# Altium schematic symbol library MOSFET.SchLib: 13 symbols
Pins are listed as number, name and electrical type; pins without a type are passive.

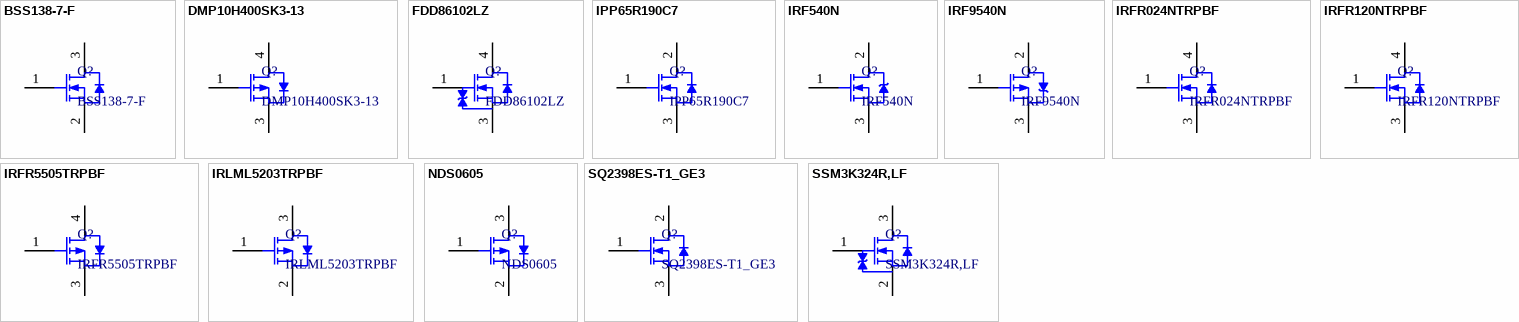
[diagram p0: symbols BSS138-7-F to SSM3K324R,LF]

## BSS138-7-F
designator Q?
MOSFETs 300mW 50V DSS; Manufacturer: Diodes Incorporated; Continuous Drain Current: 200 mA; Drain-to-Source On-Resistance: 3.5 Ohms; FET Type: N-Channel; Gate-to-Source Voltage (VGS): ±20V; Gate Threshold Voltage (Vth): 1.2 V; Drain to Source Voltage (Vdss): 50 V; Power Dissipation: 300 mW; Total Gate Charge: N/A; ComponentLink1Description: Datasheet; ComponentLink1URL: https://www.mouser.com/datasheet/2/115/ds30144-3214779.pdf; Supplier 1 URL: https://www.mouser.com/ProductDetail/Diodes-Incorporated/BSS138-7-F?qs=TJSU9qitBVRAP5gIAnNy0g%3D%3D; Supplier 2 URL: https://www.digikey.com/en/products/detail/diodes-incorporated/BSS138-7-F/717723; Supplier 3 URL: N/A; Value: BSS138-7-F; Manufacturer Part Number: BSS138-7-F; Mount: SMD/SMT; Operating Temperature Max: + 150 C; Operating Temperature Min: - 50 C; Package / Case: SOT-23-3; Packaging: Tape and Reel; Supplier 1: Mouser; Supplier 1 Part Number: 621-BSS138-7-F; Supplier 2: Digi-Key; Supplier 2 Part Number: BSS138-FDITR-ND; Supplier 3: thegioiic; Supplier 3 Part Number: N/A; LCSC Part #: C40912
footprint BSS138-7-F-SOT23 (SOT23, 3-Leads, Body 2.90x2.40mm, Pitch 0.90mm, IPC Medium Density)
pins: 1 G, 2 S, 3 D

## DMP10H400SK3-13
designator Q?
100V 9A 42W 240mΩ@10V,5A 3V@250uA P Channel TO-252-2 MOSFETs ROHS; Manufacturer: Diodes Incorporated; Drain to Source Voltage (Vdss): -100V; Gate Threshold Voltage (Vth): -1 V; Gate-to-Source Voltage (VGS): ±20V; Drain-to-Source On-Resistance: 240 mOhms; Continuous Drain Current: -9 A; Total Gate Charge: 17.5 nC; FET Type: P-Channel; Power Dissipation: 42 W; ComponentLink1Description: Datasheet; ComponentLink1URL: https://www.lcsc.com/datasheet/lcsc_datasheet_2005180933_Diodes-Incorporated-DMP10H400SK3-13_C177034.pdf; Supplier 1 URL: https://www.mouser.vn/ProductDetail/Diodes-Incorporated/DMP10H400SK3-13?qs=wo71MgyKIyFqONaMc85PEA%3D%3D; Supplier 2 URL: N/A; Supplier 3 URL: N/A; Value: DMP10H400SK3-13; Manufacturer Part Number: DMP10H400SK3-13; Mount: SMD/SMT; Operating Temperature Max: + 85 C; Operating Temperature Min: - 40 C; Package / Case: DPAK-3 (TO-252-3); Packaging: Tape and Reel; Supplier 1: Mouser; Supplier 1 Part Number: 621-DMP10H400SK3-13; Supplier 2: Digi-Key; Supplier 2 Part Number: N/A; Supplier 3: thegioiic; Supplier 3 Part Number: N/A; LCSC Part #: C177034
footprint TO-252-3 (D-PAK, 3-Pads, Body 6.20x6.54mm (max), IPC Medium Density)
pins: 1 G, 3 S, 4 D

## FDD86102LZ
designator Q?
MOSFETs 100V 22.5mΩ@10V,8A 3V@250uA 1 N-Channel TO-252(DPAK) MOSFETs ROHS; Manufacturer: onsemi; Continuous Drain Current: 42 A; Drain-to-Source On-Resistance: 31 mOhms; Gate-to-Source Voltage (VGS): ±20V; Gate Threshold Voltage (Vth): 1 V; Power Dissipation: 54 W; Total Gate Charge: 26 nC; Drain to Source Voltage (Vdss): 100 V; FET Type: N-Channel; ComponentLink1Description: Datasheet; ComponentLink1URL: https://www.mouser.com/datasheet/2/308/1/FDD86102LZ_D-2312405.pdf; Supplier 1 URL: https://www.mouser.com/ProductDetail/onsemi-Fairchild/FDD86102LZ?qs=dIxESgyDOriq9LDJtrMcmg%3D%3D; Supplier 2 URL: https://www.digikey.com/en/products/detail/onsemi/fdd86102lz/2602557; Supplier 3 URL: N/A; Value: FDD86102LZ; Manufacturer Part Number: FDD86102LZ; Mount: SMD/SMT; Operating Temperature Max: + 150 C; Operating Temperature Min: - 55 C; Package / Case: DPAK-3 (TO-252-3); Packaging: Tape and Reel; Supplier 1: Mouser; Supplier 1 Part Number: 512-FDD86102LZ; Supplier 2: Digi-Key; Supplier 2 Part Number: FDD86102LZFSTR-ND; Supplier 3: thegioiic; Supplier 3 Part Number: N/A; LCSC Part #: C111627
footprint TO-252-3 (D-PAK, 3-Pads, Body 6.20x6.54mm (max), IPC Medium Density)
pins: 1 G, 3 S, 4 D

## IPP65R190C7
designator Q?
MOSFET N-CH, 650V, 13A, 190mOhm, TO220AB; Manufacturer: Infineon Technologies; Drain-to-Source On-Resistance: 190 mOhms; FET Type: N-Channel; Gate-to-Source Voltage (VGS): ±20V; Gate Threshold Voltage (Vth): 3-4V; Power Dissipation: 72W; Total Gate Charge: 23nC; Continuous Drain Current: 13A; Drain to Source Voltage (Vdss): 650V; ComponentLink1Description: Datasheet; ComponentLink1URL: https://www.mouser.vn/datasheet/2/196/Infineon_IPP65R190C7_DS_v02_01_en-3165368.pdf; Supplier 1 URL: https://www.mouser.vn/ProductDetail/Infineon-Technologies/IPP65R190C7?qs=61g%252BPyeGH22xCcDq3bqxig%3D%3D; Supplier 2 URL: https://www.digikey.com/en/products/detail/rochester-electronics-llc/IPP65R190C7/13437818; Supplier 3 URL: N/A; Value: IPP65R190C7; Manufacturer Part Number: IPP65R190C7; Mount: SMD/SMT; Operating Temperature Max: + 85 C; Operating Temperature Min: - 40 C; Package / Case: TO-220AB; Packaging: Tape and Reel; Supplier 1: Mouser; Supplier 1 Part Number: 726-IPP65R190C7; Supplier 2: Digi-Key; Supplier 2 Part Number: 2156-IPP65R190C7-ND; Supplier 3: thegioiic; Supplier 3 Part Number: N/A; LCSC Part #: N/A
footprint IPP65R-TO-220AB
pins: 1 G, 2 D, 3 S

## IRF540N
designator Q?
MOSFET MOSFT 100V 33A 44mOhm 47.3nC; Manufacturer: Infineon Technologies; Gate Threshold Voltage (Vth): 2-4V; Gate-to-Source Voltage (VGS): ±20V; Drain-to-Source On-Resistance: 44mΩ; Total Gate Charge: 71nC; Power Dissipation: 130W; FET Type: N-Channel; Drain to Source Voltage (Vdss): 100V; Continuous Drain Current: 33A; ComponentLink1Description: Datasheet; ComponentLink1URL: https://www.mouser.vn/datasheet/2/196/Infineon_IRF540N_DataSheet_v01_01_EN-3166033.pdf; Supplier 1 URL: https://www.mouser.vn/ProductDetail/Infineon-Technologies/IRF540NPBF?qs=9%252BKlkBgLFf36us%252Bg5kwffA%3D%3D; Supplier 2 URL: https://www.digikey.com/en/products/detail/infineon-technologies/IRF540NPBF/811869; Supplier 3 URL: https://www.thegioiic.com/irf540npbf-mosfet-kenh-n-100v-33a-to-220ab; Value: IRF540N; Manufacturer Part Number: IRF540N; Mount: SMD/SMT; Operating Temperature Max: + 85 C; Operating Temperature Min: - 40 C; Package / Case: TO-220AB; Packaging: Tape and Reel; Supplier 1: Mouser; Supplier 1 Part Number: 942-IRF540NPBF; Supplier 2: Digi-Key; Supplier 2 Part Number: IRF540NPBF-ND; Supplier 3: thegioiic; Supplier 3 Part Number: N/A; LCSC Part #: N/A
footprint IRF540N-TO-220AB
pins: 1 G, 2 D, 3 S

## IRF9540N
designator Q?
MOSFET MOSFT PCh -100V -23A 117mOhm 64.7nC; Manufacturer: Infineon Technologies; Gate-to-Source Voltage (VGS): ±20V; Drain-to-Source On-Resistance: 0.117Ω; Total Gate Charge: 97nC; Power Dissipation: 140W; FET Type: P-Channel; Drain to Source Voltage (Vdss): -100V; Gate Threshold Voltage (Vth): N/A; Continuous Drain Current: -23A; ComponentLink1Description: Datasheet; ComponentLink1URL: https://www.mouser.vn/datasheet/2/196/Infineon_IRF9540N_DataSheet_v01_01_EN-3166147.pdf; Supplier 1 URL: https://www.mouser.vn/ProductDetail/Infineon-Technologies/IRF9540NPBF?qs=9%252BKlkBgLFf0vnuA8mxUPtw%3D%3D; Supplier 2 URL: https://www.digikey.com/en/products/detail/infineon-technologies/IRF9540NPBF/812088; Supplier 3 URL: https://www.thegioiic.com/irf9540npbf-mosfet-kenh-p-100v-19a-to-220ab; Value: IRF9540N; Manufacturer Part Number: IRF9540N; Mount: SMD/SMT; Operating Temperature Max: + 85 C; Operating Temperature Min: - 40 C; Package / Case: TO-220AB; Packaging: Tape and Reel; Supplier 1: Mouser; Supplier 1 Part Number: 942-IRF9540NPBF; Supplier 2: Digi-Key; Supplier 2 Part Number: IRF9540NPBF-ND; Supplier 3: thegioiic; Supplier 3 Part Number: N/A; LCSC Part #: N/A
footprint IRF9540N-TO-220AB
pins: 1 G, 2 D, 3 S

## IRFR024NTRPBF
designator Q?
55V 17A 45W 75mΩ@10V,10A 2V 1 N-channel TO-252-2(DPAK) MOSFETs ROHS; Manufacturer: Infineon Technologies; Drain-to-Source On-Resistance: 75 mOhms; Gate-to-Source Voltage (VGS): ±20V; Gate Threshold Voltage (Vth): 1.8 V; Total Gate Charge: 20 nC; Continuous Drain Current: 17 A; Drain to Source Voltage (Vdss): 55 V; FET Type: N-Channel; Power Dissipation: 45 W; ComponentLink1Description: Datasheet; ComponentLink1URL: https://lcsc.com/datasheet/lcsc_datasheet_2409302232_Infineon-IRFR024NTRPBF_C2583.pdf; Supplier 1 URL: https://www.mouser.vn/ProductDetail/Infineon-Technologies/IRFR024NTRPBF?qs=9%252BKlkBgLFf35AlyEbDFeFQ%3D%3D; Supplier 2 URL: N/A; Supplier 3 URL: N/A; Value: IRFR024NTRPBF; Manufacturer Part Number: IRFR024NTRPBF; Mount: SMD/SMT; Operating Temperature Max: + 85 C; Operating Temperature Min: - 40 C; Package / Case: DPAK-3 (TO-252-3); Packaging: Tape and Reel; Supplier 1: Mouser; Supplier 1 Part Number: 942-IRFR024NTRPBF; Supplier 2: Digi-Key; Supplier 2 Part Number: N/A; Supplier 3: thegioiic; Supplier 3 Part Number: N/A; LCSC Part #: C2583
footprint TO-252-3 (D-PAK, 3-Pads, Body 6.20x6.54mm (max), IPC Medium Density)
pins: 1 G, 3 S, 4 D

## IRFR120NTRPBF
designator Q?
MOSFET 100V 1 N-CH HEXFET 210mOhms 16.7nC; Manufacturer: Infineon Technologies; Continuous Drain Current: 9.4 A; FET Type: N-Channel; Gate-to-Source Voltage (VGS): ±20V; Gate Threshold Voltage (Vth): 2.0 V; Power Dissipation: 48 W; Total Gate Charge: 23nC; Drain-to-Source On-Resistance: 210 mOhms; Drain to Source Voltage (Vdss): 100 V; ComponentLink1Description: Datasheet; ComponentLink1URL: https://www.mouser.vn/datasheet/2/196/Infineon_IRFR120N_DataSheet_v01_01_EN-3363096.pdf; Supplier 1 URL: https://www.mouser.com/ProductDetail/Toshiba/SSM3K324RLF?qs=PiFplXvYe5XQediraS9xUQ%3D%3D; Supplier 2 URL: N/A; Supplier 3 URL: N/A; Value: IRFR120NTRPBF; Manufacturer Part Number: IRFR120NTRPBF; Mount: SMD/SMT; Operating Temperature Max: + 85 C; Operating Temperature Min: - 40 C; Package / Case: DPAK-3 (TO-252-3); Packaging: Tape and Reel; Supplier 1: Mouser; Supplier 1 Part Number: 942-IRFR120NTRPBF; Supplier 2: Digi-Key; Supplier 2 Part Number: N/A; Supplier 3: thegioiic; Supplier 3 Part Number: N/A; LCSC Part #: C3008
footprint TO-252-3 (D-PAK, 3-Pads, Body 6.20x6.54mm (max), IPC Medium Density)
pins: 1 G, 3 S, 4 D

## IRFR5505TRPBF
designator Q?
55V 18A 110mΩ@10V,9.6A 57W 4V 1 piece P-channel TO-252-2(DPAK) MOSFETs ROHS; Manufacturer: Infineon Technologies; Drain to Source Voltage (Vdss): -55 V; Gate Threshold Voltage (Vth): -4 V; Gate-to-Source Voltage (VGS): ±20V; Drain-to-Source On-Resistance: 110 mOhms; Continuous Drain Current: -18 A; Total Gate Charge: 32 nC; Power Dissipation: 57 W; FET Type: P-Channel; ComponentLink1Description: Datasheet; ComponentLink1URL: https://www.lcsc.com/datasheet/lcsc_datasheet_2410121513_Infineon-Technologies-IRFR5505TRPBF_C26340.pdf; Supplier 1 URL: https://www.mouser.vn/ProductDetail/Infineon-Technologies/IRFR5505TRPBF?qs=NFlznGuI712wZwFPKrLjFg%3D%3D; Supplier 2 URL: N/A; Supplier 3 URL: N/A; Value: IRFR5505TRPBF; Manufacturer Part Number: IRFR5505TRPBF; Mount: SMD/SMT; Operating Temperature Max: + 85 C; Operating Temperature Min: - 40 C; Package / Case: DPAK-3 (TO-252-3); Packaging: Tape and Reel; Supplier 1: Mouser; Supplier 1 Part Number: 942-IRFR5505TRPBF; Supplier 2: Digi-Key; Supplier 2 Part Number: N/A; Supplier 3: thegioiic; Supplier 3 Part Number: N/A; LCSC Part #: C26340
footprint TO-252-3 (D-PAK, 3-Pads, Body 6.20x6.54mm (max), IPC Medium Density)
pins: 1 G, 3 S, 4 D

## IRLML5203TRPBF
designator Q?
MOSFET MOSFT P-Ch -30V -3A 98mOhm 9.5nC Log Lvl; Manufacturer: Infineon Technologies; Gate Threshold Voltage (Vth): -4 V; Gate-to-Source Voltage (VGS): ±20V; Drain-to-Source On-Resistance: 165 mOhms; Power Dissipation: 1.25 W; FET Type: P-Channel; Drain to Source Voltage (Vdss): -30 V; Continuous Drain Current: -3 A; Total Gate Charge: 9.5 nC; ComponentLink1Description: Datasheet; ComponentLink1URL: https://www.mouser.com/datasheet/2/196/Infineon_IRLML5203_DataSheet_v01_01_EN-3363405.pdf; Supplier 1 URL: https://www.mouser.com/ProductDetail/Infineon-Technologies/IRLML5203TRPBF?qs=9%252BKlkBgLFf2C8TWZ3Ajzqg%3D%3D; Supplier 2 URL: N/A; Supplier 3 URL: N/A; Value: IRLML5203TRPBF; Manufacturer Part Number: IRLML5203TRPBF; Mount: SMD/SMT; Operating Temperature Max: + 150 C; Operating Temperature Min: - 55 C; Package / Case: SOT-23-3; Packaging: Tape and Reel; Supplier 1: Mouser; Supplier 1 Part Number: 942-IRLML5203TRPBF; Supplier 2: Digi-Key; Supplier 2 Part Number: N/A; Supplier 3: thegioiic; Supplier 3 Part Number: N/A; LCSC Part #: C2592
footprint IRLML5203TRPBF (SOT23, 3-Leads, Body 2.92x2.37mm, Pitch 0.95mm, IPC Medium Density)
pins: 1 G, 2 S, 3 D

## NDS0605
designator Q?
60V 180mA 5Ω@10V,0.5A 360mW 1.7V@250uA 1 Piece P-Channel SOT-23 MOSFETs ROHS; Manufacturer: onsemi; Drain to Source Voltage (Vdss): -60 V; Gate Threshold Voltage (Vth): -3 V; Gate-to-Source Voltage (VGS): ±20V; Drain-to-Source On-Resistance: 5 Ohms; Continuous Drain Current: -180 mA; Total Gate Charge: 2.5 nC; Power Dissipation: 360 mW; FET Type: P-Channel; ComponentLink1Description: Datasheet; ComponentLink1URL: https://www.mouser.vn/datasheet/2/308/1/NDS0605_D-2317892.pdf; Supplier 1 URL: https://www.mouser.vn/ProductDetail/onsemi-Fairchild/NDS0605?qs=FOlmdCx%252BAA3MLJlVAfYlkA%3D%3D; Supplier 2 URL: N/A; Supplier 3 URL: N/A; Value: NDS0605; Manufacturer Part Number: NDS0605; Mount: SMD/SMT; Operating Temperature Max: + 150 C; Operating Temperature Min: - 55 C; Package / Case: SOT-23-3; Packaging: Tape and Reel; Supplier 1: Mouser; Supplier 1 Part Number: 512-NDS0605; Supplier 2: Digi-Key; Supplier 2 Part Number: N/A; Supplier 3: thegioiic; Supplier 3 Part Number: N/A; LCSC Part #: C124476
footprint NDS0605 (SOT23, 3-Leads, Body 2.92x2.37mm, Pitch 0.95mm, IPC Medium Density)
pins: 1 G, 2 S, 3 D

## SQ2398ES-T1_GE3
designator Q?
MOSFET N Ch 100Vds 20Vgs AEC-Q101 Qualified; Manufacturer: Vishay Semiconductors; Drain-to-Source On-Resistance: 300 mOhms; Continuous Drain Current: 1.6A; Drain to Source Voltage (Vdss): 100V; FET Type: N-Channel; Gate-to-Source Voltage (VGS): ±20V; Gate Threshold Voltage (Vth): 2.5-3.5V; Power Dissipation: 2W; Total Gate Charge: 3.4nC; ComponentLink1Description: Datasheet; ComponentLink1URL: https://www.vishay.com/doc?67117; Supplier 1 URL: https://www.mouser.vn/ProductDetail/Vishay-Semiconductors/SQ2398ES-T1_GE3?qs=Vcr9%2FL0R50iBTttjVcQTDw%3D%3D; Supplier 2 URL: https://www.digikey.com/en/products/detail/vishay-siliconix/SQ2398ES-T1-GE3/7566741?s=N4IgTCBcDaIMoEUwGYCcAOAonAtAFQEYB9AcU2RAF0BfIA; Supplier 3 URL: N/A; Value: SQ2398ES-T1_GE3; Manufacturer Part Number: SQ2398ES-T1_GE3; Mount: SMD/SMT; Operating Temperature Max: + 85 C; Operating Temperature Min: - 40 C; Package / Case: SOT-23; Packaging: Tape and Reel; Supplier 1: Mouser; Supplier 1 Part Number: 78-SQ2398ES-T1_GE3; Supplier 2: Digi-Key; Supplier 2 Part Number: SQ2398ES-T1_GE3TR-ND; Supplier 3: thegioiic; Supplier 3 Part Number: N/A; LCSC Part #: C727466
footprint SQ2398ES-SOT23
pins: 1 G, 2 D, 3 S

## SSM3K324R,LF
designator Q?
MOSFET N-Ch U-MOSVI FET ID 4A 30VDSS 200pF; Manufacturer: Toshiba; Drain-to-Source On-Resistance: 56 mOhms; Drain to Source Voltage (Vdss): 30 V; FET Type: N-Channel; Gate-to-Source Voltage (VGS): ±12V; Gate Threshold Voltage (Vth): 400 mV; Power Dissipation: 1W; Total Gate Charge: 23nC; Continuous Drain Current: 4 A; ComponentLink1Description: Datasheet; ComponentLink1URL: https://www.mouser.com/datasheet/2/408/SSM3K324R_datasheet_en_20210914-1916186.pdf; Supplier 1 URL: https://www.mouser.com/ProductDetail/Toshiba/SSM3K324RLF?qs=PiFplXvYe5XQediraS9xUQ%3D%3D; Supplier 2 URL: N/A; Supplier 3 URL: N/A; Value: SSM3K324R,LF; Manufacturer Part Number: SSM3K324R,LF; Mount: SMD/SMT; Operating Temperature Max: + 85 C; Operating Temperature Min: - 40 C; Package / Case: SOT-23F; Packaging: Tape and Reel; Supplier 1: Mouser; Supplier 1 Part Number: 757-SSM3K324RLF; Supplier 2: Digi-Key; Supplier 2 Part Number: N/A; Supplier 3: thegioiic; Supplier 3 Part Number: N/A; LCSC Part #: C395455
footprint SSM3K324R (SOTFL, 3-Leads, Body 2.90x2.40mm, Pitch 0.95mm, IPC Medium Density)
pins: 1 G, 2 S, 3 D